# Altium schematic symbol library scs-check.SchLib: 5 symbols
Pins are listed as number, name and electrical type; pins without a type are passive.

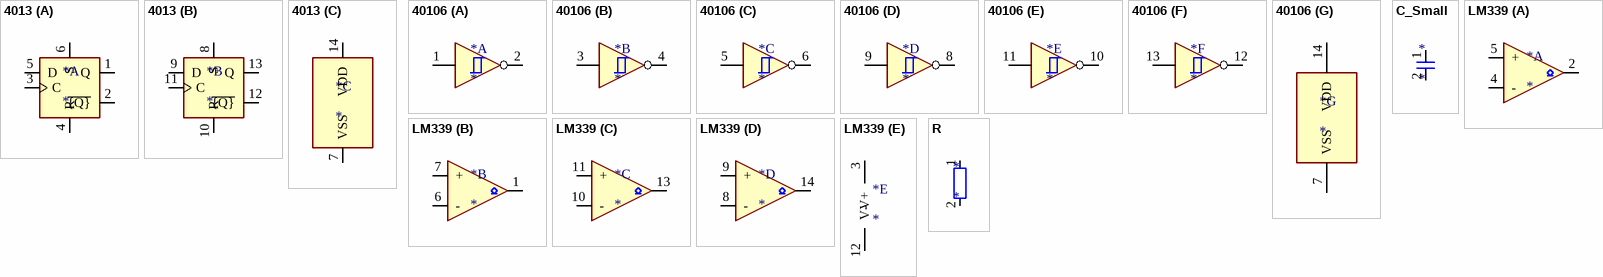
[diagram p0: symbols 4013 to R]

## 4013
designator *
part A pins: 1 Q, 2 ~{{Q}}, 3 C, 4 R, 5 D, 6 S
part B pins: 8 S, 9 D, 10 R, 11 C, 12 ~{{Q}}, 13 Q
part C pins: 7 VSS, 14 VDD

## 40106
designator *
part A pins: 1, 2
part B pins: 3, 4
part C pins: 5, 6
part D pins: 8, 9
part E pins: 10, 11
part F pins: 12, 13
part G pins: 7 VSS, 14 VDD

## C_Small
designator *
pins: 1, 2

## LM339
designator *
part A pins: 2, 4 -, 5 +
part B pins: 1, 6 -, 7 +
part C pins: 10 -, 11 +, 13
part D pins: 8 -, 9 +, 14
part E pins: 3 V+, 12 V-

## R
designator *
pins: 1, 2